# EAGLE library part CPU_EXP_PORT-NG (library F030NG)
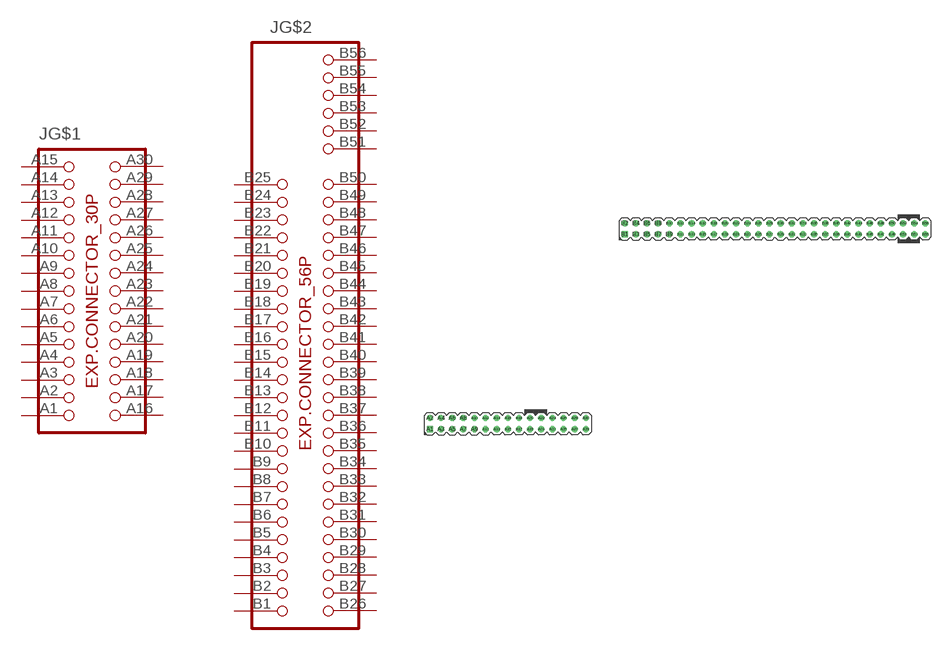
[diagram p64: symbol with the pads of PH_CPU_EXP_PORT-NG; footprint PH_CPU_EXP_PORT-NG]

Designator prefix J; gates G$1=EXP_CONN_30P G$2=EXP_CONN_56P

## CPU_EXP_PORT-NG  [PH_CPU_EXP_PORT-NG]
A1  G$1:1  pas
A2  G$1:2  pas
A3  G$1:3  pas
A4  G$1:4  pas
A5  G$1:5  pas
A6  G$1:6  pas
A7  G$1:7  pas
A8  G$1:8  pas
A9  G$1:9  pas
A10  G$1:10  pas
A11  G$1:11  pas
A12  G$1:12  pas
A13  G$1:13  pas
A14  G$1:14  pas
A15  G$1:15  pas
A16  G$1:16  pas
A17  G$1:17  pas
A18  G$1:18  pas
A19  G$1:19  pas
A20  G$1:20  pas
A21  G$1:21  pas
A22  G$1:22  pas
A23  G$1:23  pas
A24  G$1:24  pas
A25  G$1:25  pas
A26  G$1:26  pas
A27  G$1:27  pas
A28  G$1:28  pas
A29  G$1:29  pas
A30  G$1:30  pas
B1  G$2:1  pas
B2  G$2:2  pas
B3  G$2:3  pas
B4  G$2:4  pas
B5  G$2:5  pas
B6  G$2:6  pas
B7  G$2:7  pas
B8  G$2:8  pas
B9  G$2:9  pas
B10  G$2:10  pas
B11  G$2:11  pas
B12  G$2:12  pas
B13  G$2:13  pas
B14  G$2:14  pas
B15  G$2:15  pas
B16  G$2:16  pas
B17  G$2:17  pas
B18  G$2:18  pas
B19  G$2:19  pas
B20  G$2:20  pas
B21  G$2:21  pas
B22  G$2:22  pas
B23  G$2:23  pas
B24  G$2:24  pas
B25  G$2:25  pas
B26  G$2:26  pas
B27  G$2:27  pas
B28  G$2:28  pas
B29  G$2:29  pas
B30  G$2:30  pas
B31  G$2:31  pas
B32  G$2:32  pas
B33  G$2:33  pas
B34  G$2:34  pas
B35  G$2:35  pas
B36  G$2:36  pas
B37  G$2:37  pas
B38  G$2:38  pas
B39  G$2:39  pas
B40  G$2:40  pas
B41  G$2:41  pas
B42  G$2:42  pas
B43  G$2:43  pas
B44  G$2:44  pas
B45  G$2:45  pas
B46  G$2:46  pas
B47  G$2:47  pas
B48  G$2:48  pas
B49  G$2:49  pas
B50  G$2:50  pas
B51  G$2:51  pas
B52  G$2:52  pas
B53  G$2:53  pas
B54  G$2:54  pas
B55  G$2:55  pas
B56  G$2:56  pas

## Footprint PH_CPU_EXP_PORT-NG (pad centres in mm)
PIN HEADER
drill 0.9 square: A1 0,0; B1 44.45,44.45
drill 0.9: A2 0,2.54; A3 2.54,0; A4 2.54,2.54; A5 5.08,0; A6 5.08,2.54; A7 7.62,0; A8 7.62,2.54; A9 10.16,0; A10 10.16,2.54; A11 12.7,0; A12 12.7,2.54; A13 15.24,0; A14 15.24,2.54; A15 17.78,0; A16 17.78,2.54; A17 20.32,0; A18 20.32,2.54; A19 22.86,0; A20 22.86,2.54; A21 25.4,0; A22 25.4,2.54; A23 27.94,0; A24 27.94,2.54; A25 30.48,0; A26 30.48,2.54; A27 33.02,0; A28 33.02,2.54; A29 35.56,0; A30 35.56,2.54; B2 44.45,46.99; B3 46.99,44.45; B4 46.99,46.99; B5 49.53,44.45; B6 49.53,46.99; B7 52.07,44.45; B8 52.07,46.99; B9 54.61,44.45; B10 54.61,46.99; B11 57.15,44.45; B12 57.15,46.99; B13 59.69,44.45; B14 59.69,46.99; B15 62.23,44.45; B16 62.23,46.99; B17 64.77,44.45; B18 64.77,46.99; B19 67.31,44.45; B20 67.31,46.99; B21 69.85,44.45; B22 69.85,46.99; B23 72.39,44.45; B24 72.39,46.99; B25 74.93,44.45; B26 74.93,46.99; B27 77.47,44.45; B28 77.47,46.99; B29 80.01,44.45; B30 80.01,46.99; B31 82.55,44.45; B32 82.55,46.99; B33 85.09,44.45; B34 85.09,46.99; B35 87.63,44.45; B36 87.63,46.99; B37 90.17,44.45; B38 90.17,46.99; B39 92.71,44.45; B40 92.71,46.99; B41 95.25,44.45; B42 95.25,46.99; B43 97.79,44.45; B44 97.79,46.99; B45 100.33,44.45; B46 100.33,46.99; B47 102.87,44.45; B48 102.87,46.99; B49 105.41,44.45; B50 105.41,46.99; B51 107.95,44.45; B52 107.95,46.99; B53 110.49,44.45; B54 110.49,46.99; B55 113.03,44.45; B56 113.03,46.99